# Altium footprint library Wago.PcbLib: 2 footprints
Each footprint in its own frame and in the unit in brackets; x right, y up, seen from the top. Pads: shape width x height; smd on the part's side, far side on the other; paste and mask are expansions set on the pad; w line width, h text height; cw(c..) or ccw(c..) is an arc to the next point about the centre after c.
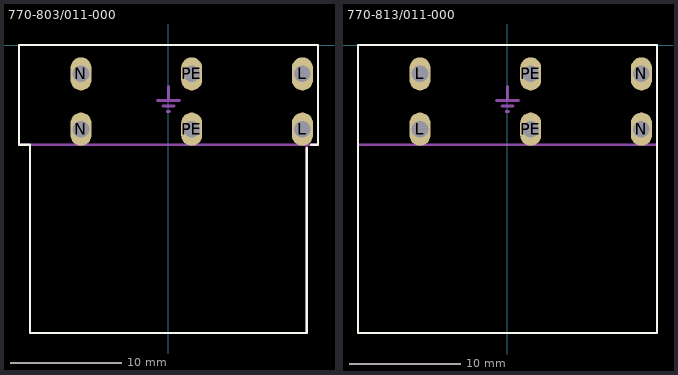
[diagram p0: the footprints below, top view; thin cyan lines are the x and y axes]

## 770-803/011-000 [mm] "Socket for PCBs; angled; 3-pole; Cod.A; black"
pads (6):
  oval 1.9x3 hole 1.5: L(12.1,-7.6) L(12.1,-2.6) N(-7.9,-7.6) N(-7.9,-2.6) PE(2.1,-7.6) PE(2.1,-2.6)
Top Overlay:
  lines w0.2: 12.5,-9.3 12.5,-26 -12.5,-26 -12.5,-9 -13.5,-9 -13.5,0 13.5,0 13.5,-9 12.9,-9
Top Assembly:
  lines w0.2: -12.5,-9 -12.5,-26 12.5,-26 12.5,-9 ; -13.5,-9 13.5,-9 13.5,0 -13.5,0 -13.5,-9
  lines w0.25: -1,-5 1,-5 ; -0.5,-5.5 0.5,-5.5 ; -0.1,-6 0.1,-6 ; 0,-5 0,-3.75
  text "L" at 9.198,-6.281 h4
  text "N" at -11.009,-6.281 h4
3D body: height 10.7, standoff 7.5, extent 8.5,-26 11.5,-9
3D body: height 10.7, standoff 7.5, extent -11.5,-26 -8.5,-9
3D body: height 10.7, standoff 7.5, extent -1.5,-26 1.5,-9
3D body: height 6.5, standoff 5.5, extent 8,-26 12,-9
3D body: height 6.5, standoff 4, extent 5.5,-26 8,-9
3D body: height 5.5, standoff 2, extent 8,-26 8.75,-9
3D body: height 5.5, standoff 2, extent 11.25,-26 12,-9
3D body: height 2, standoff 1, extent 8,-26 12,-9
3D body: height 6.5, standoff 5.5, extent -12,-26 -8,-9
3D body: height 6.5, standoff 4, extent -8,-26 -5.5,-9
3D body: height 5.5, standoff 2, extent -12,-26 -11.25,-9
3D body: height 5.5, standoff 2, extent -8.75,-26 -8,-9
3D body: height 2, standoff 1, extent -12,-26 -8,-9
3D body: height 6.5, standoff 5.5, extent -2,-26 2,-9
3D body: height 6.5, standoff 4, extent -4.5,-26 -2,-9
3D body: height 6.5, standoff 4, extent 2,-26 4.5,-9
3D body: height 5.5, standoff 2, extent -2,-26 -1.25,-9
3D body: height 5.5, standoff 2, extent 1.25,-26 2,-9
3D body: height 2, standoff 1, extent -2,-26 2,-9
3D body: height 14.6, standoff 13.2, extent 3.25,-9 6.75,-7.5
3D body: height 14.6, standoff 13.2, extent -6.75,-9 -3.25,-7.5
3D body: height 13.2, standoff 11.7, extent -6.75,-26 6.75,-9
3D body: height 0, standoff -3.5, extent -8.4,-8 -7.4,-7.2
3D body: height 0, standoff -3.5, extent 1.6,-8 2.6,-7.2
3D body: height 0, standoff -3.5, extent 11.6,-8 12.6,-7.2
3D body: height 0, standoff -3.5, extent 11.6,-3 12.6,-2.2
3D body: height 0, standoff -3.5, extent 1.6,-3 2.6,-2.2
3D body: height 0, standoff -3.5, extent -8.4,-3 -7.4,-2.2
3D body: height 11.7, standoff 0, extent -13.5,-9 13.5,0

## 770-813/011-000 [mm] "Plug for PCBs; angled; 3-pole; Cod.A; black"
pads (6):
  oval 1.9x3 hole 1.5: L(-7.9,-7.6) L(-7.9,-2.6) N(12.1,-7.6) N(12.1,-2.6) PE(2.1,-7.6) PE(2.1,-2.6)
Top Overlay:
  lines w0.2: -13.5,-26 13.5,-26 13.5,-9 13.5,0 -13.5,0 -13.5,-9 -13.5,-26
Top Assembly:
  lines w0.2: -13.5,-9 13.5,-9 ; -13.5,-9 -13.5,0 13.5,0 13.5,-9 ; -13.5,-9 -13.5,-26 13.5,-26 13.5,-9
  lines w0.25: -1,-5 1,-5 ; -0.5,-5.5 0.5,-5.5 ; -0.1,-6 0.1,-6 ; 0,-5 0,-3.75
  text "N" at 8.991,-6.281 h4
  text "L" at -10.802,-6.281 h4
3D body: height 14.6, standoff 13.2, extent 3.25,-9 6.75,-7.5
3D body: height 14.6, standoff 13.2, extent -6.75,-9 -3.25,-7.5
3D body: height 13.2, standoff 11.7, extent -6.75,-26 6.75,-9
3D body: height 1, standoff 0, extent -3,-26 3,-9
3D body: height 1, standoff 0, extent 7,-26 13.5,-9
3D body: height 1, standoff 0, extent -13.5,-26 -7,-9
3D body: height 0, standoff -3.5, extent -8.4,-8 -7.4,-7.2
3D body: height 0, standoff -3.5, extent 1.6,-8 2.6,-7.2
3D body: height 0, standoff -3.5, extent 11.6,-8 12.6,-7.2
3D body: height 0, standoff -3.5, extent 11.6,-3 12.6,-2.2
3D body: height 0, standoff -3.5, extent 1.6,-3 2.6,-2.2
3D body: height 0, standoff -3.5, extent -8.4,-3 -7.4,-2.2
3D body: height 11.7, standoff 0, extent -13.5,-9 13.5,0
3D body: height 6.5, standoff 1, extent -13.5,-26 -12.5,-9
3D body: height 3, standoff 1, extent -8,-26 -7,-9
3D body: height 3, standoff 1, extent -3,-26 -2,-9
3D body: height 3, standoff 1, extent 2,-26 3,-9
3D body: height 3, standoff 1, extent 7,-26 8,-9
3D body: height 6.5, standoff 1, extent 12.5,-26 13.5,-9
3D body: height 4, standoff 3, extent 2,-26 5,-9
3D body: height 4, standoff 3, extent -5,-26 -2,-9
3D body: height 4, standoff 3, extent 5,-26 8,-9
3D body: height 4, standoff 3, extent -8,-26 -5,-9
3D body: height 6.5, standoff 4, extent -5.5,-26 -5,-9
3D body: height 6.5, standoff 4, extent -5,-26 -4.5,-9
3D body: height 6.5, standoff 4, extent 4.5,-26 5,-9
3D body: height 6.5, standoff 4, extent 5,-26 5.5,-9
3D body: height 7.5, standoff 6.5, extent -13.5,-26 -5,-9
3D body: height 7.5, standoff 6.5, extent -5,-26 5,-9
3D body: height 7.5, standoff 6.5, extent 5,-26 13.5,-9
3D body: height 10.7, standoff 7.5, extent -12.5,-26 -11.5,-9
3D body: height 10.7, standoff 7.5, extent -8.5,-26 -7.5,-9
3D body: height 11.7, standoff 10.7, extent -12.5,-26 -7.5,-9
3D body: height 10.7, standoff 7.5, extent -2.5,-26 -1.5,-9
3D body: height 10.7, standoff 7.5, extent 1.5,-26 2.5,-9
3D body: height 11.7, standoff 10.7, extent -2.5,-26 2.5,-9
3D body: height 10.7, standoff 7.5, extent 7.5,-26 8.5,-9
3D body: height 10.7, standoff 7.5, extent 11.5,-26 12.5,-9
3D body: height 11.7, standoff 10.7, extent 7.5,-26 12.5,-9
3D body: height 4, standoff 3, extent -1.25,-24 1.25,-9
3D body: height 4, standoff 3, extent -11.25,-24 -8.75,-9
3D body: height 4, standoff 3, extent 8.75,-24 11.25,-9